# Altium schematic symbol library DM7402N.SchLib: 1 symbol
Pins are listed as number, name and electrical type; pins without a type are passive.

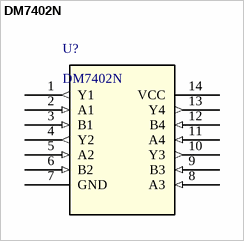
[diagram p0: symbol DM7402N]

## DM7402N
designator U?
NOR Gate; Manufacturer_Name: onsemi; Copyright: Copyright (C) 2025 Ultra Librarian. All rights reserved.; Manufacturer_Part_Number: DM7402N; RefDes: RefDes; Type: Type
footprint PDIP14_19P56X6P35_ONS
pins: 1 Y1 (out), 2 A1 (in), 3 B1 (in), 4 Y2 (out), 5 A2 (in), 6 B2 (in), 7 GND (power), 8 A3 (in), 9 B3 (in), 10 Y3 (out), 11 A4 (in), 12 B4 (in), 13 Y4 (out), 14 VCC (power)